# Altium footprint library DMT6007LFG-7.PcbLib: 1 footprints
Each footprint in its own frame and in the unit in brackets; x right, y up, seen from the top. Pads: shape width x height; smd on the part's side, far side on the other; paste and mask are expansions set on the pad; w line width, h text height; cw(c..) or ccw(c..) is an arc to the next point about the centre after c.
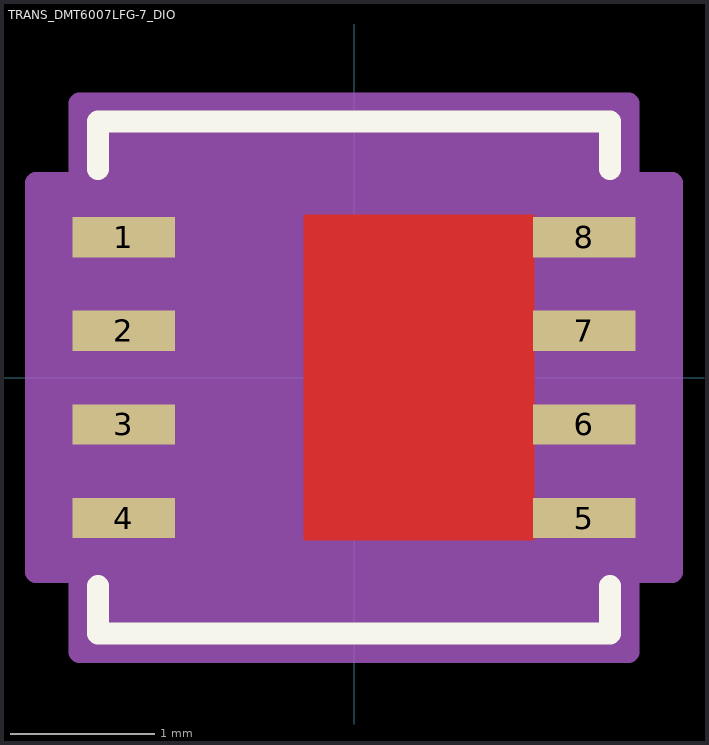
[diagram p0: the footprint, top view; thin cyan lines are the x and y axes]

## TRANS_DMT6007LFG-7_DIO [mil]
pads (8):
  rect 28x11 smd paste+0 mask+0: 1(-63,38.39) 2(-63,12.8) 3(-63,-12.8) 4(-63,-38.39) 5(63,-38.39) 6(63,-12.8) 7(63,12.8) 8(63,38.39)
Top Layer:
  region: -13.7,44.5 49.3,44.5 49.3,-44.5 -13.7,-44.5
Top Overlay:
  lines w6: -70,-56.99 -70,-70 70,-70 70,-56.99 ; -70,56.99 -70,70 70,70 70,56.99
  text ".Designator" at -137.5,-25 h50
Top Paste:
  region: -13.7,44.5 49.3,44.5 49.3,-44.5 -13.7,-44.5
Top Solder:
  region: -13.7,44.5 49.3,44.5 49.3,-44.5 -13.7,-44.5
Mechanical 13:
  circle w1: c-49,38.39 r0
  lines w1: -12,65 ccw(c0,65) 12,65 ; -65,-65 65,-65 65,65 -65,65 -65,-65
  text ".Designator" at -137.5,-25 h50
Mechanical 15:
  region: -75,-53.18 -87,-53.18 -87,53.18 -75,53.18 -75,75 75,75 75,53.18 87,53.18 87,-53.18 75,-53.18 75,-75 -75,-75
  lines w6: -87,-53.18 -87,53.18 -75,53.18 -75,75 75,75 75,53.18 87,53.18 87,-53.18 75,-53.18 75,-75 -75,-75 -75,-53.18 -87,-53.18